# EAGLE library part HEADER2X5 (library robots)
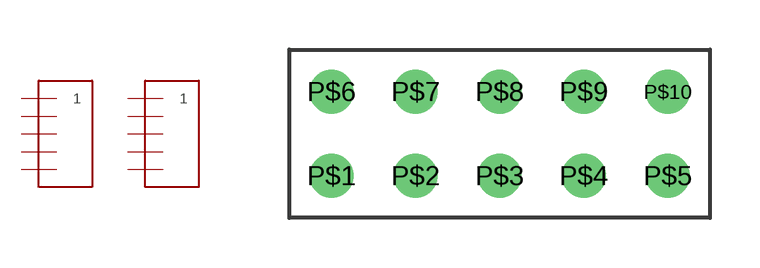
[diagram p10: symbol with the pads of 2X5; footprint 2X5]

Designator prefix -; gates G$1=1X5 G$2=1X5

## HEADER2X5  [2X5]
P$1  G$1:1
P$2  G$1:P$2
P$3  G$1:P$3
P$4  G$1:P$4
P$5  G$1:P$5
P$6  G$2:1
P$7  G$2:P$2
P$8  G$2:P$3
P$9  G$2:P$4
P$10  G$2:P$5

## Footprint 2X5 (pad centres in mm)
drill 0.813 round: P$1 0,0; P$2 2.54,0; P$3 5.08,0; P$4 7.62,0; P$5 10.16,0; P$6 0,2.54; P$7 2.54,2.54; P$8 5.08,2.54; P$9 7.62,2.54; P$10 10.16,2.54